# Altium footprint library Connector.PcbLib: 2 footprints
Each footprint in its own frame and in the unit in brackets; x right, y up, seen from the top. Pads: shape width x height; smd on the part's side, far side on the other; paste and mask are expansions set on the pad; w line width, h text height; cw(c..) or ccw(c..) is an arc to the next point about the centre after c.
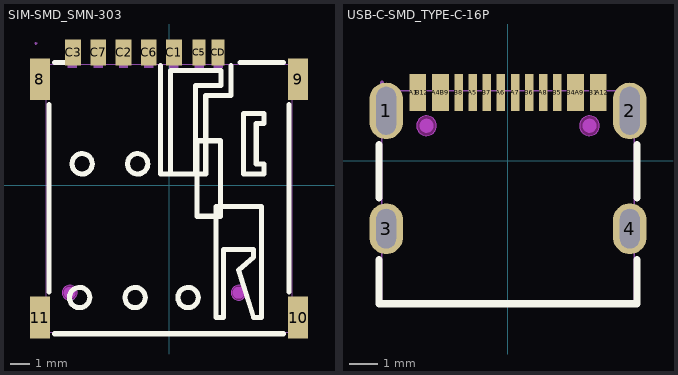
[diagram p0: the footprints below, top view; thin cyan lines are the x and y axes]

## SIM-SMD_SMN-303 [mm]
pads (11):
  rect 1x2.1 smd paste+0 mask+0.051: 8(-6.5,5.328) 9(6.5,5.328) 10(6.5,-6.672) 11(-6.5,-6.672)
  rect 0.8x1.3 smd paste+0 mask+0.051: C1(0.25,6.672) C2(-2.29,6.672) C3(-4.83,6.672) C6(-1.02,6.672) C7(-3.56,6.672)
  rect 0.65x1.3 smd paste+0 mask+0.051: C5(1.52,6.672) CD(2.47,6.672)
Top Overlay:
  circle w0.254: c0.962,-5.663 r0.512
  circle w0.254: c-1.705,-5.663 r0.512
  circle w0.254: c-4.499,-5.663 r0.512
  circle w0.254: c-1.578,1.068 r0.512
  circle w0.254: c-4.372,1.068 r0.512
  lines w0.254: -6.042,-5.391 -6.042,4.047 ; -5.769,-7.486 5.769,-7.486 ; -5.769,6.164 -4.969,6.164 ; -3.731,6.164 -3.699,6.164 ; -2.461,6.164 -2.429,6.164 ; -1.191,6.164 -1.159,6.164 ; -0.435,6.007 -0.435,0.56 1.851,0.56 1.851,4.497 3.121,4.497 ; 0.073,0.56 0.073,5.767 2.613,5.767 2.613,5.005 1.343,5.005 1.343,0.56 ; 0.079,6.164 0.111,6.164 ; 1.349,6.164 1.381,6.164 ; 3.569,6.164 5.769,6.164 ; 6.042,-5.391 6.042,4.047 ; 3.121,4.497 3.121,6.007 3.121,4.497 ; 1.4,-1.572 2.6,-1.572 2.6,2.228 1.4,2.228 1.4,-1.572 ; 2.359,-6.679 2.359,-1.091 4.645,-1.091 4.645,-6.679 4.264,-6.679 3.502,-4.266 4.264,-3.631 4.264,-3.25 2.74,-3.25 2.74,-6.679 2.359,-6.679 ; 3.756,0.56 4.772,0.56 4.772,1.068 4.391,1.068 4.391,3.1 4.772,3.1 4.772,3.608 3.756,3.608 3.756,0.56
Keep-Out Layer:
  board cut-out: 3.5,-5.047 3.575,-5.047 3.712,-5.104 3.818,-5.21 3.875,-5.348 3.875,-5.497 3.818,-5.635 3.712,-5.74 3.575,-5.797 3.5,-5.797 3.425,-5.797 3.288,-5.74 3.182,-5.635 3.125,-5.497 3.125,-5.348 3.182,-5.21 3.288,-5.104 3.425,-5.047 3.5,-5.047
  board cut-out: -5,-5.047 -4.925,-5.047 -4.787,-5.104 -4.682,-5.21 -4.625,-5.348 -4.625,-5.497 -4.682,-5.635 -4.787,-5.74 -4.925,-5.797 -5,-5.797 -5.074,-5.797 -5.212,-5.74 -5.318,-5.635 -5.375,-5.497 -5.375,-5.348 -5.318,-5.21 -5.212,-5.104 -5.074,-5.047 -5,-5.047
Mechanical 1:
  circle w0.005: c3.5,-5.422 r0.375
  circle w0.005: c-5,-5.422 r0.375
Mechanical 6:
  circle w0.3: c3.5,-5.422 r0.15
  circle w0.3: c-5,-5.422 r0.15
Mechanical 15:
  region: 0.025,7.128 0.475,7.128 0.475,5.9 0.025,5.9
  region: -1.245,7.128 -0.795,7.128 -0.795,5.9 -1.245,5.9
  region: -2.515,7.128 -2.065,7.128 -2.065,5.9 -2.515,5.9
  region: 6.15,6.078 6.7,6.078 6.7,4.578 6.15,4.578
  region: 6.15,-5.922 6.7,-5.922 6.7,-7.422 6.15,-7.422
  region: -6.7,-5.922 -6.15,-5.922 -6.15,-7.422 -6.7,-7.422
  region: -6.7,6.078 -6.15,6.078 -6.15,4.578 -6.7,4.578
  region: -5.1,7.128 -4.65,7.128 -4.65,5.9 -5.1,5.9
  region: -3.785,7.128 -3.335,7.128 -3.335,5.9 -3.785,5.9
  region: 1.295,7.128 1.745,7.128 1.745,5.9 1.295,5.9
  region: 2.245,7.128 2.695,7.128 2.695,5.9 2.245,5.9
  region: -6.7,7.188 -6.675,7.188 -6.64,7.153 -6.64,7.103 -6.675,7.068 -6.7,7.068 -6.725,7.068 -6.76,7.103 -6.76,7.153 -6.725,7.188 -6.7,7.188
  lines w0.051: -6.206,-7.422 6.206,-7.422 6.206,6.078 -6.206,6.078 -6.206,-7.422

## USB-C-SMD_TYPE-C-16P [mm]
pads (20):
  oval 1.2x2 hole 0.7 slot 1.7 at 90 deg paste+0 mask+0.051: 1(-4.32,1.765) 2(4.32,1.765)
  oval 1.2x1.8 hole 0.7 slot 1.4 at 90 deg paste+0 mask+0.051: 3(-4.32,-2.415) 4(4.32,-2.415)
  rect 0.3x1.3 smd paste-100 mask+0.05: A1(-3.35,2.415) A4(-2.55,2.415) A5(-1.25,2.415) A6(-0.25,2.415) A7(0.25,2.415) A8(1.25,2.415) A9(2.55,2.415) A12(3.35,2.415) B1(3.05,2.415) B4(2.25,2.415) B5(1.75,2.415) B6(0.75,2.415) B7(-0.75,2.415) B8(-1.75,2.415) B9(-2.25,2.415) B12(-3.05,2.415)
Top Overlay:
  lines w0.254: -4.572,-3.507 -4.572,-5.08 4.572,-5.08 4.572,-3.507 ; -4.572,-1.323 -4.572,0.573 ; 4.572,-1.323 4.572,0.573
Top Paste:
  drawing of 16 lines, arcs and shapes, not listed
Keep-Out Layer:
  board cut-out: 3.24,1.235 3.24,1.305 3.187,1.433 3.088,1.532 2.96,1.585 2.82,1.585 2.692,1.532 2.593,1.433 2.54,1.305 2.54,1.235 2.54,1.165 2.593,1.037 2.692,0.938 2.82,0.885 2.96,0.885 3.088,0.938 3.187,1.037 3.24,1.165 3.24,1.235
  board cut-out: -2.54,1.235 -2.54,1.305 -2.593,1.433 -2.692,1.532 -2.82,1.585 -2.96,1.585 -3.088,1.532 -3.187,1.433 -3.24,1.305 -3.24,1.235 -3.24,1.165 -3.187,1.037 -3.088,0.938 -2.96,0.885 -2.82,0.885 -2.692,0.938 -2.593,1.037 -2.54,1.165 -2.54,1.235
Mechanical 1:
  circle w0.025: c2.89,1.235 r0.35
  circle w0.025: c-2.89,1.235 r0.35
Mechanical 6:
  circle w0.25: c2.89,1.235 r0.125
  circle w0.25: c-2.89,1.235 r0.125
Mechanical 15:
  region: 3.199,2.77 3.399,2.77 3.399,1.77 3.199,1.77
  region: 3.001,2.77 3.201,2.77 3.201,1.77 3.001,1.77
  region: 2.397,2.77 2.597,2.77 2.597,1.77 2.397,1.77
  region: 2.198,2.77 2.398,2.77 2.398,1.77 2.198,1.77
  region: -3.402,2.77 -3.202,2.77 -3.202,1.77 -3.402,1.77
  region: -3.203,2.77 -3.003,2.77 -3.003,1.77 -3.203,1.77
  region: -2.602,2.77 -2.402,2.77 -2.402,1.77 -2.602,1.77
  region: -2.403,2.77 -2.203,2.77 -2.203,1.77 -2.403,1.77
  region: -1.85,2.77 -1.65,2.77 -1.65,1.77 -1.85,1.77
  region: -1.35,2.77 -1.15,2.77 -1.15,1.77 -1.35,1.77
  region: -0.85,2.77 -0.65,2.77 -0.65,1.77 -0.85,1.77
  region: -0.35,2.77 -0.15,2.77 -0.15,1.77 -0.35,1.77
  region: 0.15,2.77 0.35,2.77 0.35,1.77 0.15,1.77
  region: 0.65,2.77 0.85,2.77 0.85,1.77 0.65,1.77
  region: 1.65,2.77 1.85,2.77 1.85,1.77 1.65,1.77
  region: 1.15,2.77 1.35,2.77 1.35,1.77 1.15,1.77
  region: 4.17,-2.015 4.47,-2.015 4.47,-2.815 4.17,-2.815
  region: -4.47,-2.015 -4.17,-2.015 -4.17,-2.815 -4.47,-2.815
  region: 4.17,2.315 4.47,2.315 4.47,1.215 4.17,1.215
  region: -4.47,2.315 -4.17,2.315 -4.17,1.215 -4.47,1.215
  region: -4.41,2.77 -4.41,2.795 -4.445,2.83 -4.495,2.83 -4.53,2.795 -4.53,2.77 -4.53,2.745 -4.495,2.71 -4.445,2.71 -4.41,2.745 -4.41,2.77
  lines w0.051: -4.47,-5.08 4.47,-5.08 4.47,2.47 -4.47,2.47 -4.47,-5.08